# Altium footprint library PcbLib1.PcbLib: 5 footprints
Each footprint in its own frame and in the unit in brackets; x right, y up, seen from the top. Pads: shape width x height; smd on the part's side, far side on the other; paste and mask are expansions set on the pad; w line width, h text height; cw(c..) or ccw(c..) is an arc to the next point about the centre after c.
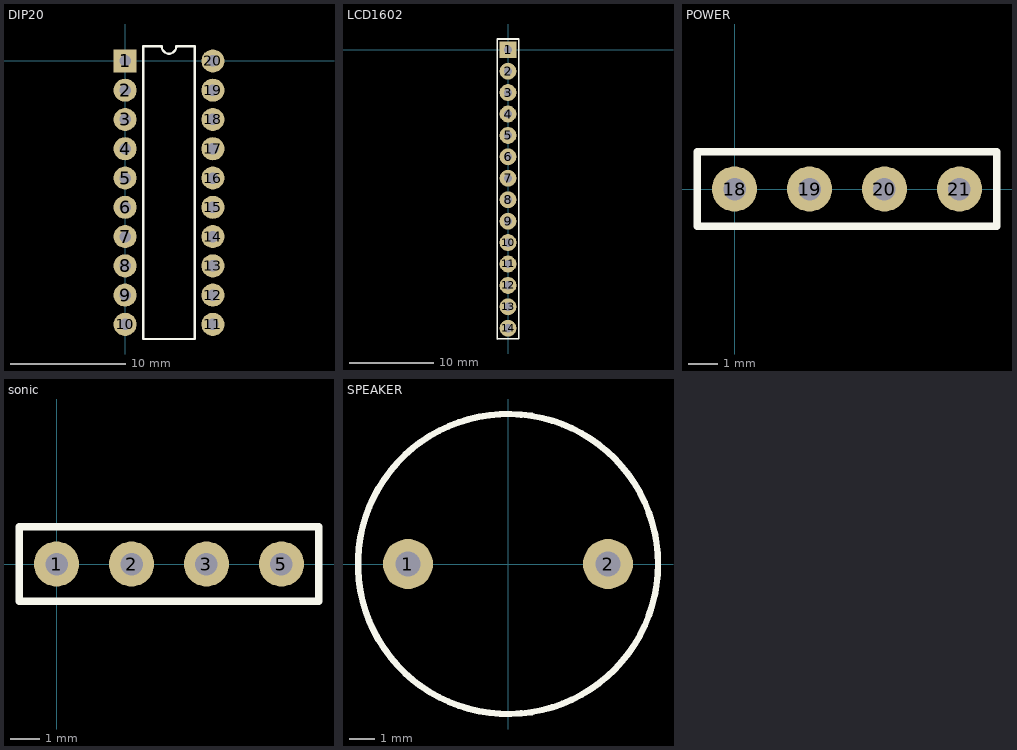
[diagram p0: the footprints below, top view; thin cyan lines are the x and y axes]

## DIP20 [mm]
pads (20):
  rect 2x2 hole 1: 1(0,0)
  round 2 hole 1: 2(0,-2.54) 3(0,-5.08) 4(0,-7.62) 5(0,-10.16) 6(0,-12.7) 7(0,-15.24) 8(0,-17.78) 9(0,-20.32) 10(0,-22.86) 11(7.62,-22.86) 12(7.62,-20.32) 13(7.62,-17.78) 14(7.62,-15.24) 15(7.62,-12.7) 16(7.62,-10.16) 17(7.62,-7.62) 18(7.62,-5.08) 19(7.62,-2.54) 20(7.62,0)
Top Overlay:
  lines w0.2: 1.585,-24.13 6.035,-24.13 6.035,1.27 4.445,1.27 cw(c3.81,1.27) 3.175,1.27 1.585,1.27 1.585,-24.13

## LCD1602 [mm]
pads (14):
  rect 2x2 hole 1: 1(0,0)
  round 2 hole 1: 2(0,-2.54) 3(0,-5.08) 4(0,-7.62) 5(0,-10.16) 6(0,-12.7) 7(0,-15.24) 8(0,-17.78) 9(0,-20.32) 10(0,-22.86) 11(0,-25.4) 12(0,-27.94) 13(0,-30.48) 14(0,-33.02)
Top Overlay:
  lines w0.178: -1.27,-34.29 1.27,-34.29 1.27,1.27
  lines w0.2: -1.27,-34.29 -1.27,1.27 1.27,1.27

## POWER [mil]
pads (4):
  round 60 hole 30: 18(0,0) 19(100,0) 20(200,0) 21(300,0)
Top Overlay:
  lines w10: -50,-50 350,-50 350,50 -50,50 -50,0 -50,-50

## sonic [mil]
pads (4):
  round 60 hole 30: 1(0,0) 2(100,0) 3(200,0) 5(300,0)
Top Overlay:
  lines w10: -50,-50 -50,0 -50,50 350,50 350,-50 0,-50 -50,-50

## SPEAKER [mm]
pads (2):
  round 2 hole 1: 1(-4,0) 2(4,0)
Top Overlay:
  circle w0.254: c0,0 r6